# EAGLE library part FCI_68015_X06 (library C3-Connector)
FCI 68015-X02 RA .100" pin header - 6 position
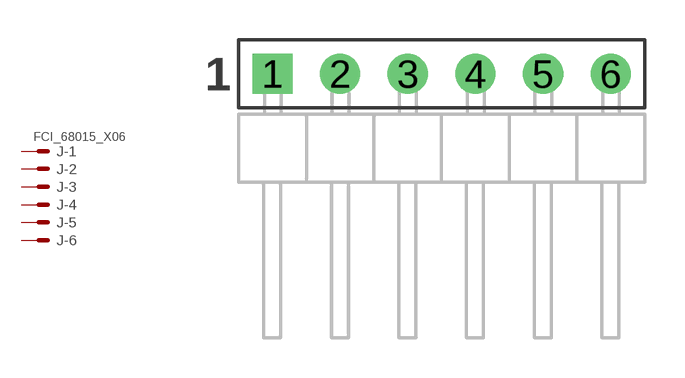
[diagram p14: symbol with the pads of FCI_68015_X06; footprint FCI_68015_X06]

Designator prefix J; gates -1=MV -2=M -3=M -4=M -5=M -6=M

## FCI_68015_X06  [FCI_68015_X06]
1  -1:S  pas
2  -2:S  pas
3  -3:S  pas
4  -4:S  pas
5  -5:S  pas
6  -6:S  pas

## Footprint FCI_68015_X06 (pad centres in mm)
drill 1 square: 1 -6.35,0
drill 1: 2 -3.81,0; 3 -1.27,0; 4 1.27,0; 5 3.81,0; 6 6.35,0